# Altium footprint library DF13-6P.PcbLib: 1 footprints
Each footprint in its own frame and in the unit in brackets; x right, y up, seen from the top. Pads: shape width x height; smd on the part's side, far side on the other; paste and mask are expansions set on the pad; w line width, h text height; cw(c..) or ccw(c..) is an arc to the next point about the centre after c.
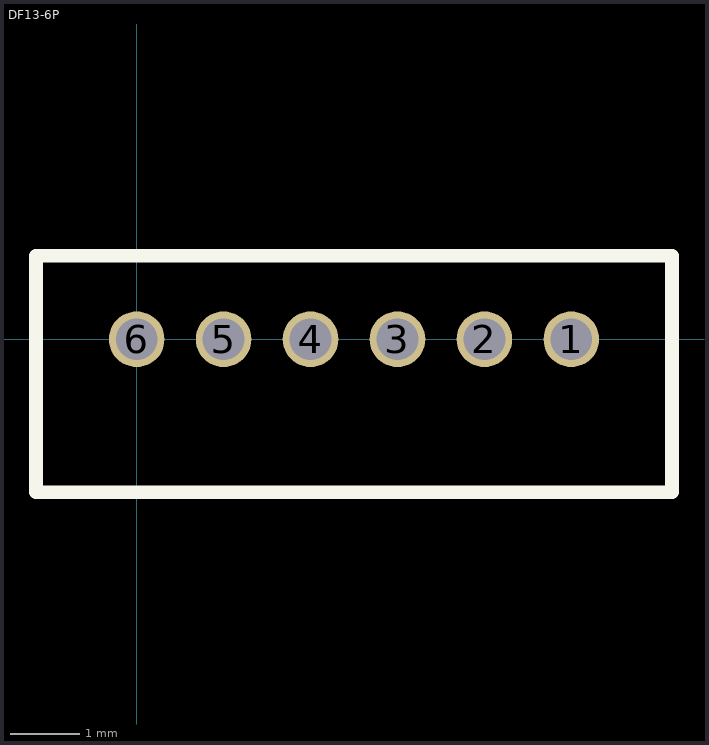
[diagram p0: the footprint, top view; thin cyan lines are the x and y axes]

## DF13-6P [mm] "6 Pin DF13 through hole"
height 4.3
pads (6):
  round 0.8 hole 0.6: 1(6.25,0) 2(5,0) 3(3.75,0) 4(2.5,0) 5(1.25,0) 6(0,0)
Top Overlay:
  lines w0.2: -1.45,-2.2 -1.45,1.2 7.7,1.2 7.7,-2.2 -1.45,-2.2